# Altium schematic symbol library ACTION_SchematicDiagramPack.SCHLIB: 273 symbols (part 3 of 3)
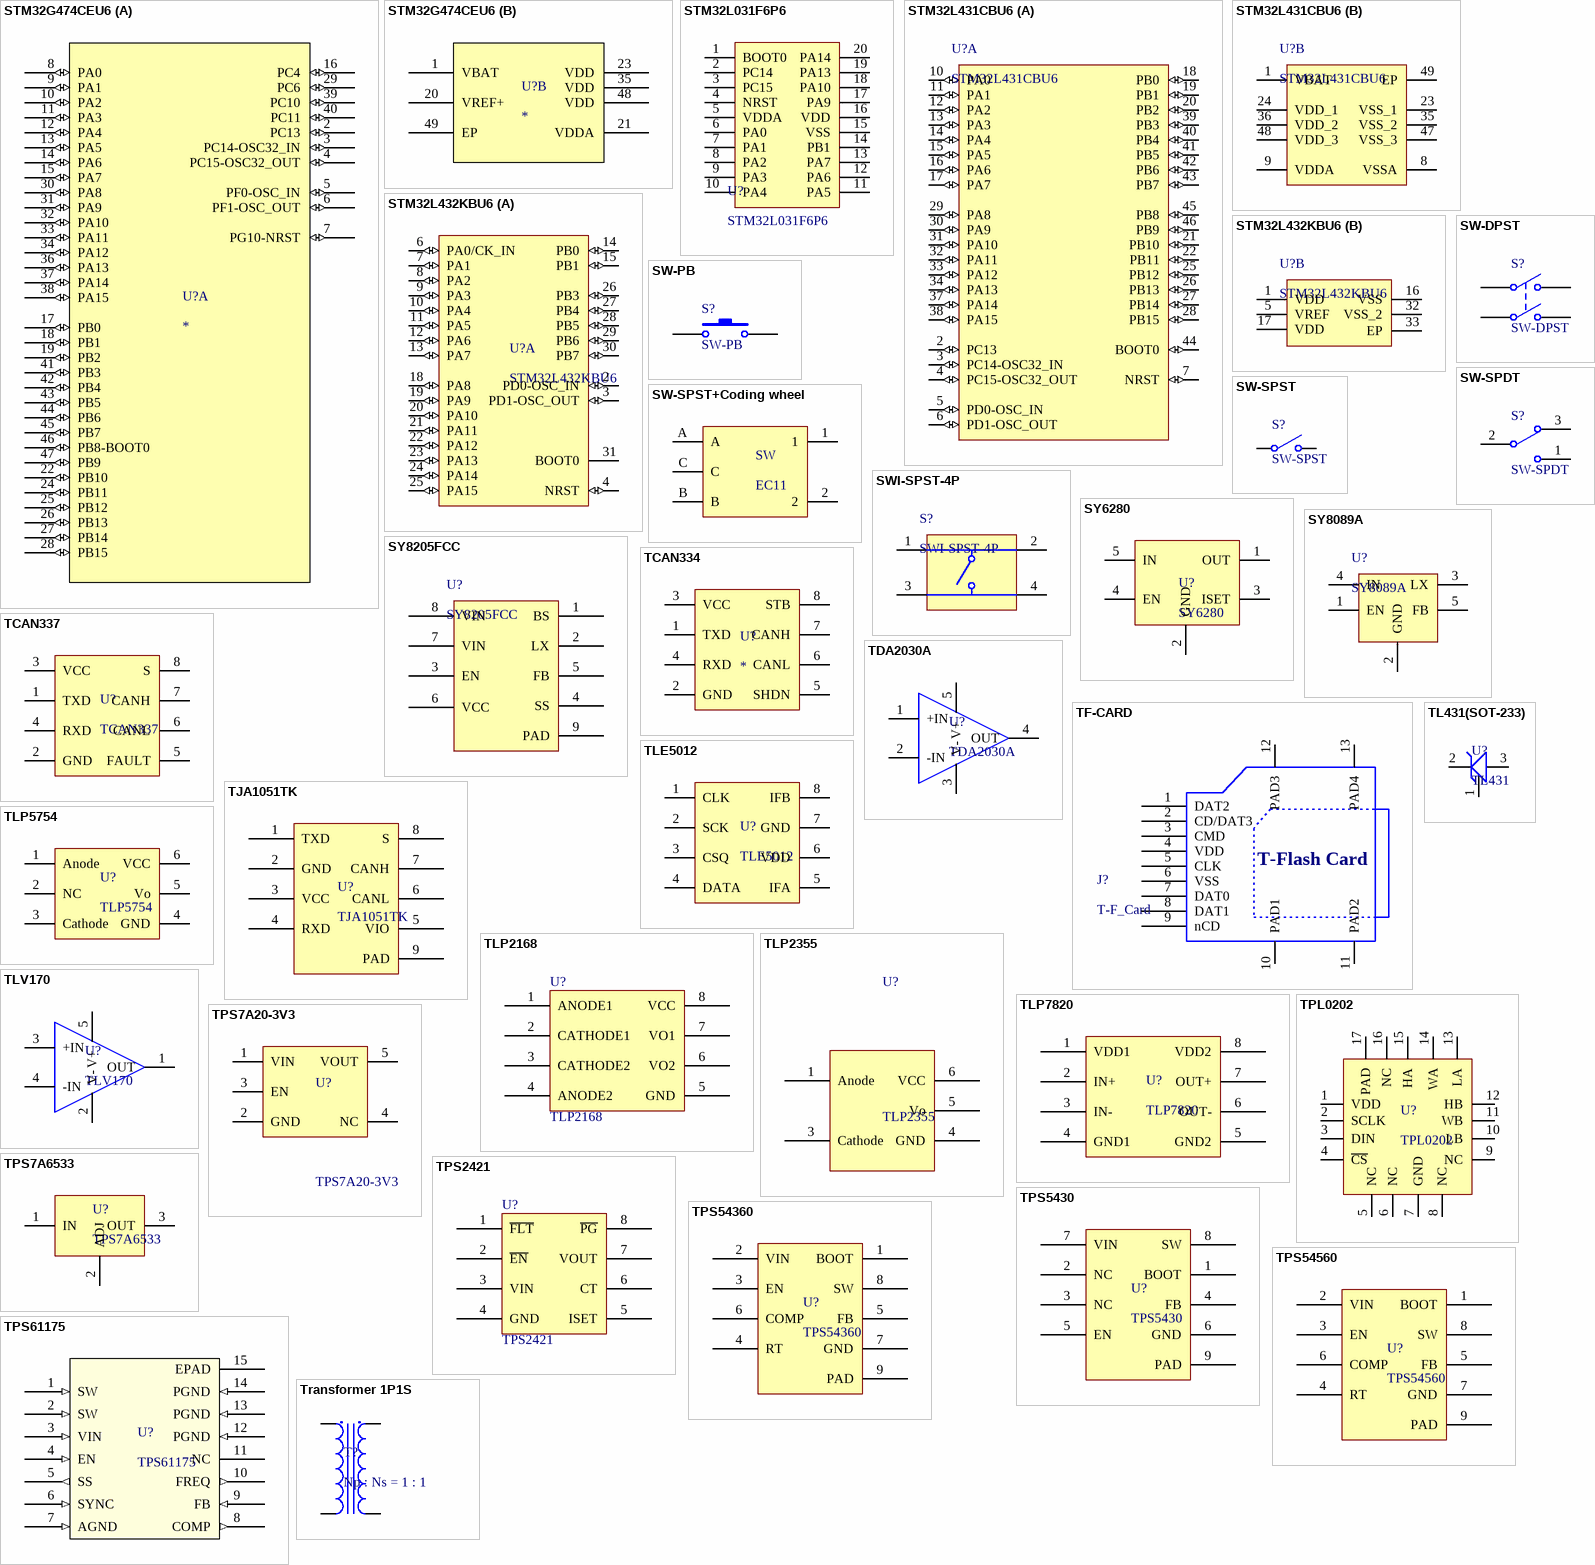
[diagram p13: symbols STM32G474CEU6 to Transformer 1P1S]

## TPS54560
designator U?
Buck
footprint HSOIC-8
pins: 1 BOOT, 2 VIN, 3 EN, 4 RT, 5 FB, 6 COMP, 7 GND, 8 SW, 9 PAD

## TPS61175
designator U?
Boost; Manufacturer_Part_Number: tps61175_pwp_14; Vendor: Texas Instruments; PACKAGE_DESIGNATOR: PWP; PIN_COUNT: 14; FAMILY_NAME: STEP-UP REGULATOR; INDUSTRY_STD_PKG_TYPE: HTSSOP; GENERIC_PART_NUMBER: TPS61175; Manufacturer: Texas Instruments; Datasheet_URL: http://www.ti.com/lit/gpn/TPS61175; Value: Value; Type: Type; RefDes: RefDes
pins: 1 SW (in), 2 SW (in), 3 VIN (in), 4 EN (in), 5 SS (out), 6 SYNC (in), 7 AGND (in), 8 COMP (out), 9 FB (in), 10 FREQ (out), 11 NC, 12 PGND (in), 13 PGND (in), 14 PGND (in), 15 EPAD

## Transformer 1P1S
designator T?, comment Np : Ns = 1 : 1
Transformer
pins: 1, 2, 3, 4

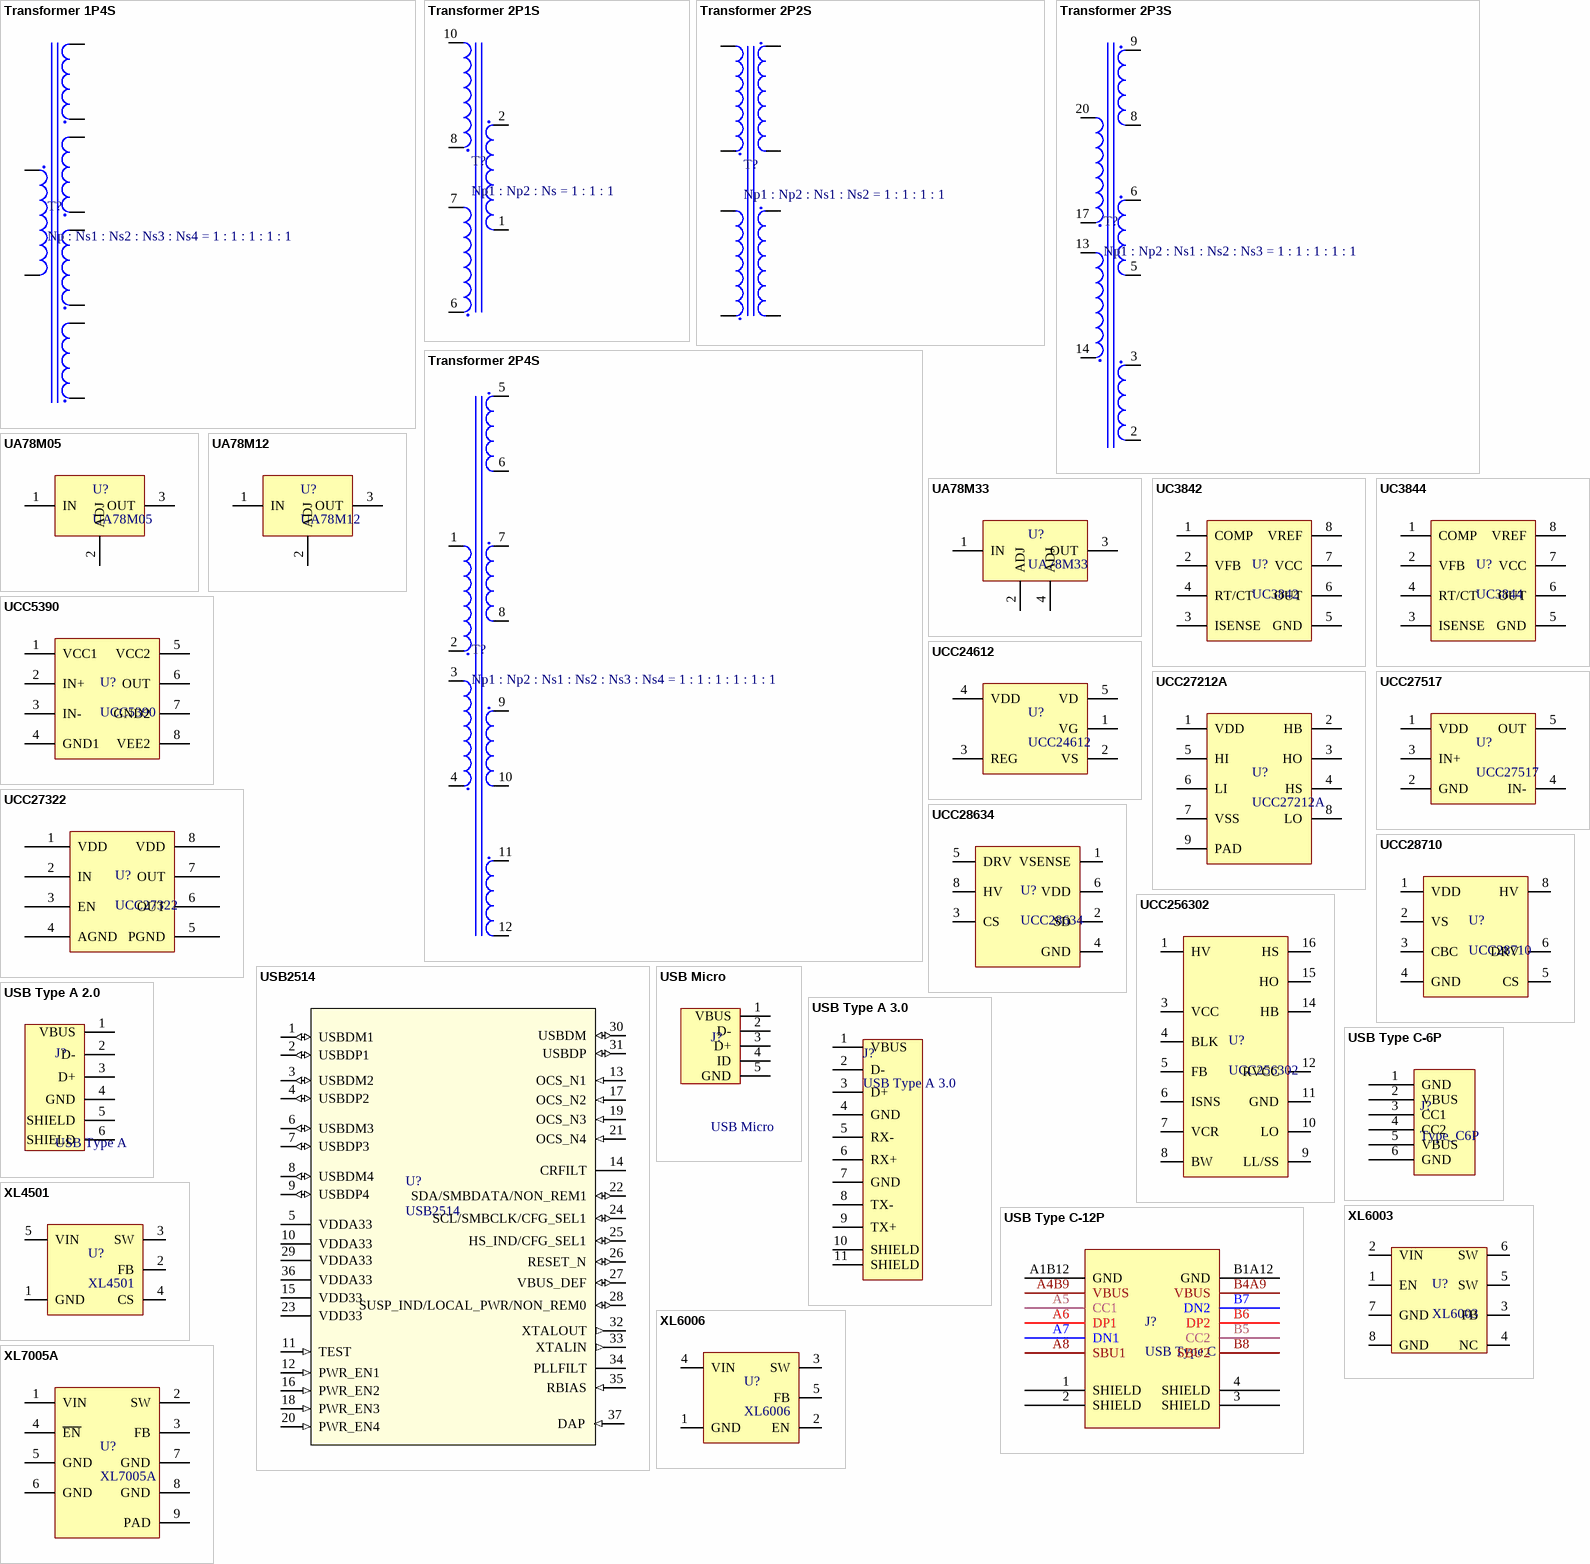
[diagram p10: symbols Transformer 1P4S to XL7005A]

## Transformer 1P4S
designator T?, comment Np : Ns1 : Ns2 : Ns3 : Ns4 = 1 : 1 : 1 : 1 : 1
Transformer
pins: 1, 2, 3, 4, 5, 6, 7, 8, 9, 10

## Transformer 2P1S
designator T?, comment Np1 : Np2 : Ns = 1 : 1 : 1
Transformer
pins: 1, 2, 6, 7, 8, 10

## Transformer 2P2S
designator T?, comment Np1 : Np2 : Ns1 : Ns2 = 1 : 1 : 1 : 1
Transformer
pins: 1, 2, 3, 4, 5, 6, 7, 8

## Transformer 2P3S
designator T?, comment Np1 : Np2 : Ns1 : Ns2 : Ns3 = 1 : 1 : 1 : 1 : 1
Transformer
pins: 2, 3, 5, 6, 8, 9, 13, 14, 17, 20

## Transformer 2P4S
designator T?, comment Np1 : Np2 : Ns1 : Ns2 : Ns3 : Ns4 = 1 : 1 : 1 : 1 : 1 : 1
Transformer
pins: 1, 2, 3, 4, 5, 6, 7, 8, 9, 10, 11, 12

## UA78M05
designator U?
LDO
footprint TO-252
pins: 1 IN, 2 ADJ, 3 OUT

## UA78M12
designator U?
LDO
footprint TO-252
pins: 1 IN, 2 ADJ, 3 OUT

## UA78M33
designator U?
LDO
footprint SOT-223
pins: 1 IN, 2 ADJ, 3 OUT, 4 ADJ

## UC3842
designator U?
通用型PWM控制器
footprint SOIC-8(4mm) (SOIC, 8-Leads, Body 5.0x4.0mm (max), Pitch 1.27mm, IPC Medium Density)
pins: 1 COMP, 2 VFB, 3 ISENSE, 4 RT/CT, 5 GND, 6 OUT, 7 VCC, 8 VREF

## UC3844
designator U?
通用型PWM控制器
footprint SOIC-8(4mm) (SOIC, 8-Leads, Body 5.0x4.0mm (max), Pitch 1.27mm, IPC Medium Density)
pins: 1 COMP, 2 VFB, 3 ISENSE, 4 RT/CT, 5 GND, 6 OUT, 7 VCC, 8 VREF

## UCC5390
designator U?
隔离型栅极驱动器
footprint SOIC-8(4mm) (SOIC, 8-Leads, Body 5.0x4.0mm (max), Pitch 1.27mm, IPC Medium Density)
pins: 1 VCC1, 2 IN+, 3 IN-, 4 GND1, 5 VCC2, 6 OUT, 7 GND2, 8 VEE2

## UCC24612
designator U?
同步整流控制器
footprint SOT-235 (SOT23, 5-Leads, Body 3.0x2.6mm (max), Pitch 0.95mm, IPC Medium Density)
pins: 1 VG, 2 VS, 3 REG, 4 VDD, 5 VD

## UCC27212A
designator U?
半桥驱动器
footprint HSOIC-8(4mm)
pins: 1 VDD, 2 HB, 3 HO, 4 HS, 5 HI, 6 LI, 7 VSS, 8 LO, 9 PAD

## UCC27322
designator U?
栅极驱动器
footprint SOIC-8(4mm) (SOIC, 8-Leads, Body 5.0x4.0mm (max), Pitch 1.27mm, IPC Medium Density)
pins: 1 VDD, 2 IN, 3 EN, 4 AGND, 5 PGND, 6 OUT, 7 OUT, 8 VDD

## UCC27517
designator U?
低侧栅极驱动器
footprint SOT-235 (SOT23, 5-Leads, Body 3.0x2.6mm (max), Pitch 0.95mm, IPC Medium Density)
footprint SOT-235 (SOT23, 5-Leads, Body 3.0x2.6mm (max), Pitch 0.95mm, IPC Medium Density)
pins: 1 VDD, 2 GND, 3 IN+, 4 IN-, 5 OUT

## UCC28634
designator U?
PSR Flyback Controller
footprint SOIC-7(4mm) (SOIC, 8-Leads, Body 5.0x4.0mm (max), Pitch 1.27mm, IPC Medium Density)
pins: 1 VSENSE, 2 SD, 3 CS, 4 GND, 5 DRV, 6 VDD, 8 HV

## UCC28710
designator U?
PSR Flyback Controller
footprint SOIC-8(4mm) 缺Pin7 (SOIC, 8-Leads, Body 5.0x4.0mm (max), Pitch 1.27mm, IPC Medium Density)
pins: 1 VDD, 2 VS, 3 CBC, 4 GND, 5 CS, 6 DRV, 8 HV

## UCC256302
designator U?
LLC谐振控制器
footprint SOIC-16(4mm) 缺Pin2,13
pins: 1 HV, 3 VCC, 4 BLK, 5 FB, 6 ISNS, 7 VCR, 8 BW, 9 LL/SS, 10 LO, 11 GND, 12 RVCC, 14 HB, 15 HO, 16 HS

## USB2514
designator U?
USB2.0-HUB
footprint QFN-36-6*6
pins: 1 USBDM1 (io), 2 USBDP1 (io), 3 USBDM2 (io), 4 USBDP2 (io), 5 VDDA33 (power), 6 USBDM3 (io), 7 USBDP3 (io), 8 USBDM4 (io), 9 USBDP4 (io), 10 VDDA33 (power), 11 TEST (in), 12 PWR_EN1 (in), 13 OCS_N1 (in), 14 CRFILT (power), 15 VDD33 (power), 16 PWR_EN2 (in), 17 OCS_N2 (in), 18 PWR_EN3 (in), 19 OCS_N3 (in), 20 PWR_EN4 (in), 21 OCS_N4 (in), 22 SDA/SMBDATA/NON_REM1 (io), 23 VDD33 (power), 24 SCL/SMBCLK/CFG_SEL1 (io), 25 HS_IND/CFG_SEL1 (io), 26 RESET_N (io), 27 VBUS_DEF (io), 28 SUSP_IND/LOCAL_PWR/NON_REM0 (io), 29 VDDA33 (power), 30 USBDM (io), 31 USBDP (io), 32 XTALOUT (out), 33 XTALIN (out), 34 PLLFILT (power), 35 RBIAS (in), 36 VDDA33 (power), 37 DAP (in)

## USB Micro
designator J?
footprint USB Micro
pins: 1 VBUS, 2 D-, 3 D+, 4 ID, 5 GND

## USB Type A 2.0
designator J?, comment USB Type A
USB Type A 2.0
footprint USB-Type A 母
footprint USB-Type A 2.0 公  直插
pins: 1 VBUS, 2 D-, 3 D+, 4 GND, 5 SHIELD, 6 SHIELD

## USB Type A 3.0
designator J?
footprint USB-Type A 3.0 母
pins: 1 VBUS, 2 D-, 3 D+, 4 GND, 5 RX-, 6 RX+, 7 GND, 8 TX-, 9 TX+, 10 SHIELD, 11 SHIELD

## USB Type C-6P
designator J?, comment Type_C6P
立创链接https://item.szlcsc.com/269351.html
footprint Type-C-6P
pins: 1 GND, 2 VBUS, 3 CC1, 4 CC2, 5 VBUS, 6 GND

## USB Type C-12P
designator J?, comment USB Type C
footprint USB-Type C 2.0 12P
pins: 1 SHIELD, 2 SHIELD, 3 SHIELD, 4 SHIELD, A1B12 GND, A4B9 VBUS, A5 CC1, A6 DP1, A7 DN1, A8 SBU1, B1A12 GND, B4A9 VBUS, B5 CC2, B6 DP2, B7 DN2, B8 SBU2

## XL4501
designator U?
Buck Converter
footprint TO-263-5
pins: 1 GND, 2 FB, 3 SW, 4 CS, 5 VIN

## XL6003
designator U?
Boost LED Driver
footprint SOIC-8(4mm) (SOIC, 8-Leads, Body 5.0x4.0mm (max), Pitch 1.27mm, IPC Medium Density)
pins: 1 EN, 2 VIN, 3 FB, 4 NC, 5 SW, 6 SW, 7 GND, 8 GND

## XL6006
designator U?
Boost LED Driver
footprint TO-263-5
pins: 1 GND, 2 EN, 3 SW, 4 VIN, 5 FB

## XL7005A
designator U?
Buck Converter
footprint HSOIC-8(4mm)
pins: 1 VIN, 2 SW, 3 FB, 4 ~{EN}, 5 GND, 6 GND, 7 GND, 8 GND, 9 PAD

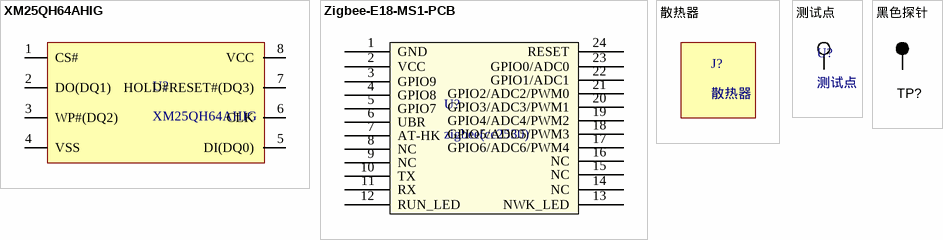
[diagram p11: symbols XM25QH64AHIG to 黑色探针]

## XM25QH64AHIG
designator U?
64Mb Flash
footprint SOP-8L
footprint SOIC-8 (5.3mm)
pins: 1 CS#, 2 DO(DQ1), 3 WP#(DQ2), 4 VSS, 5 DI(DQ0), 6 CLK, 7 HOLD#RESET#(DQ3), 8 VCC

## Zigbee-E18-MS1-PCB
designator U?, comment zigbee(cc2530)
易佰特天猫旗舰店 / E18-MSI-PCB
pins: 1 GND, 2 VCC, 3 GPIO9, 4 GPIO8, 5 GPIO7, 6 UBR, 7 AT-HK, 8 NC, 9 NC, 10 TX, 11 RX, 12 RUN_LED, 13 NWK_LED, 14 NC, 15 NC, 16 NC, 17 GPIO6/ADC6/PWM4, 18 GPIO5/ADC5/PWM3, 19 GPIO4/ADC4/PWM2, 20 GPIO3/ADC3/PWM1, 21 GPIO2/ADC2/PWM0, 22 GPIO1/ADC1, 23 GPIO0/ADC0, 24 RESET

## 散热器
designator J?
footprint TO-220散热器-23*30*16mm

## 测试点
designator U?
footprint 测试点
pins: 1

## 黑色探针
designator TP?
pins: 1